# EAGLE library part AD210JN (library AD210JN)
Precision, Wide Bandwidth 3-Port Isolation Amplifier Source: Datasheet
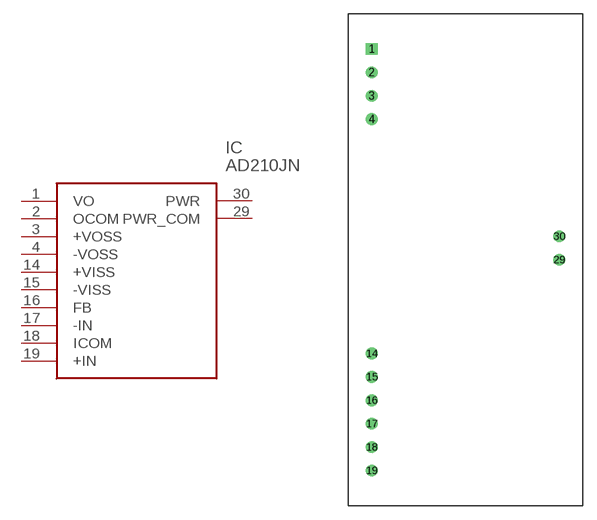
[diagram p0: symbol with the pads of AD210_N_12; footprint AD210_N_12]

Designator prefix IC

## AD210JN (Description: Precision, Wide Bandwidth 3-Port Isolation Amplifier; Height: mm; Manufacturer_Name: Analog Devices; Manufacturer_Part_Number: AD210JN; Mouser_Part_Number: 584-AD210JN; Mouser_Price-Stock: https://www.mouser.co.uk/ProductDetail/Analog-Devices/AD210JN?qs=NmRFExCfTkFa6nj1j%252BgrMw%3D%3D)  [AD210_N_12]
1  VO
2  OCOM
3  +VOSS
4  -VOSS
14  +VISS
15  -VISS
16  FB
17  -IN
18  ICOM
19  +IN
29  PWR_COM
30  PWR

## Footprint AD210_N_12 (pad centres in mm)
AD210_N_12
drill 0.762 pad 1.143 square: 1 -20.32,45.72
drill 0.762 pad 1.143: 2 -20.32,43.18; 3 -20.32,40.64; 4 -20.32,38.1; 14 -20.32,12.7; 15 -20.32,10.16; 16 -20.32,7.62; 17 -20.32,5.08; 18 -20.32,2.54; 19 -20.32,0; 29 0,22.86; 30 0,25.4